# EAGLE library part CUBESAT_PCB (library CubeSat_Board)
OpenCube Board.
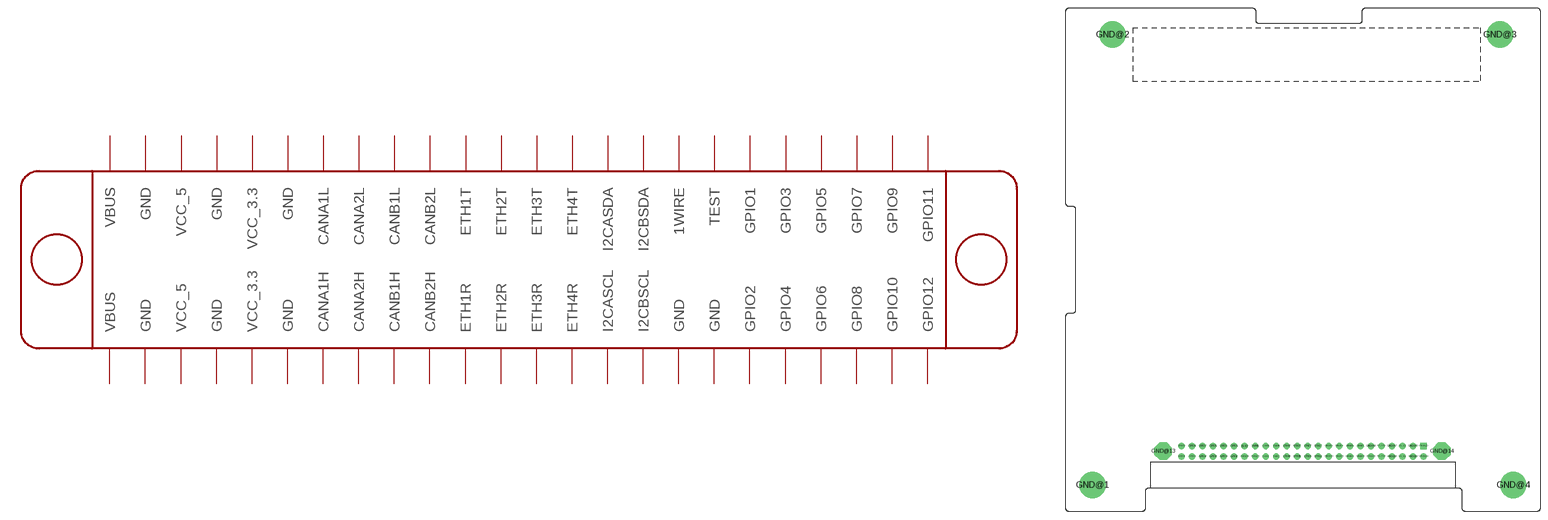
[diagram p0: symbol with the pads of CUBESAT_PCB; footprint CUBESAT_PCB]

Designator prefix -

## CUBESAT_PCB  [CUBESAT_PCB]
1WIRE  1WIRE
CANA1H  CANA1H
CANA1L  CANA1L
CANA2H  CANA2H
CANA2L  CANA2L
CANB1H  CANB1H
CANB1L  CANB1L
CANB2H  CANB2H
CANB2L  CANB2L
ETH1R  ETH1R
ETH1T  ETH1T
ETH2R  ETH2R
ETH2T  ETH2T
ETH3R  ETH3R
ETH3T  ETH3T
ETH4R  ETH4R
ETH4T  ETH4T
GND@5  GND
GND@6  GND
GND@7  GND
GND@8  GND
GND@9  GND
GND@10  GND
GND@11  GND
GND@12  GND
GPIO1  GPIO1
GPIO2  GPIO2
GPIO3  GPIO3
GPIO4  GPIO4
GPIO5  GPIO5
GPIO6  GPIO6
GPIO7  GPIO7
GPIO8  GPIO8
GPIO9  GPIO9
GPIO10  GPIO10
GPIO11  GPIO11
GPIO12  GPIO12
I2CASCL  I2CASCL
I2CASDA  I2CASDA
I2CBSCL  I2CBSCL
I2CBSDA  I2CBSDA
TEST  TEST
VBUS@1  VBUS
VBUS@2  VBUS
VCC_3.3@1  VCC_3.3
VCC_3.3@2  VCC_3.3
VCC_5@1  VCC_5
VCC_5@2  VCC_5

## Footprint CUBESAT_PCB (pad centres in mm)
CubeSat Board. Mechanically compatible with PC/104 and the CubeSat Kit (with the exception of the connector).
drill 0.7 pad 1.1: 1WIRE 36,12.5; CANA1H 56,10.5; CANA1L 56,12.5; CANA2H 54,10.5; CANA2L 54,12.5; CANB1H 52,10.5; CANB1L 52,12.5; CANB2H 50,10.5; CANB2L 50,12.5; ETH1R 48,10.5; ETH1T 48,12.5; ETH2R 46,10.5; ETH2T 46,12.5; ETH3R 44,10.5; ETH3T 44,12.5; ETH4R 42,10.5; ETH4T 42,12.5; GND@5 66,12.5; GND@6 66,10.5; GND@7 62,12.5; GND@8 62,10.5; GND@9 58,12.5; GND@10 58,10.5; GND@11 36,10.5; GND@12 34,10.5; GPIO1 32,12.5; GPIO2 32,10.5; GPIO3 30,12.5; GPIO4 30,10.5; GPIO5 28,12.5; GPIO6 28,10.5; GPIO7 26,12.5; GPIO8 26,10.5; GPIO9 24,12.5; GPIO10 24,10.5; GPIO11 22,12.5; GPIO12 22,10.5; I2CASCL 40,10.5; I2CASDA 40,12.5; I2CBSCL 38,10.5; I2CBSDA 38,12.5; TEST 34,12.5; VBUS@2 68,10.5; VCC_3.3@1 60,12.5; VCC_3.3@2 60,10.5; VCC_5@1 64,12.5; VCC_5@2 64,10.5
drill 3.18 pad 5: GND@1 5.08,5.08; GND@2 8.89,90.81; GND@3 82.55,90.81; GND@4 85.08,5.08
drill 2.3 pad 3.2 octagon: GND@13 18.5,11.5; GND@14 71.5,11.5
drill 0.7 pad 1.1 square: VBUS@1 68,12.5